# EAGLE library part S6B-ZR (library Mechanical)
JST's S6B-ZR 6-pin 1.5mm spacing right angle connector
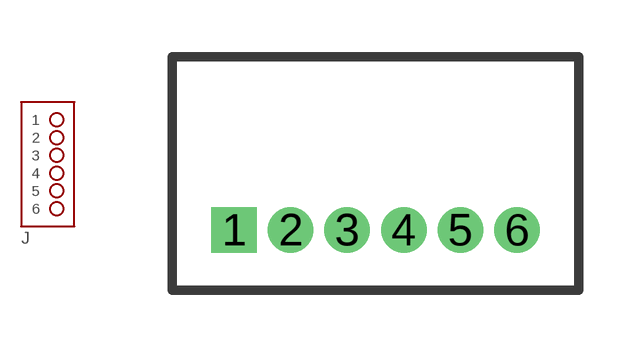
[diagram p44: symbol with the pads of S6B-ZR; footprint S6B-ZR]

Designator prefix J

## S6B-ZR  [S6B-ZR]
1  1  pas
2  2  pas
3  3  pas
4  4  pas
5  5  pas
6  6  pas

## Footprint S6B-ZR (pad centres in mm)
drill 0.7 square: 1 -3.75,0
drill 0.7: 2 -2.25,0; 3 -0.75,0; 4 0.75,0; 5 2.25,0; 6 3.75,0